# EAGLE library part 44POS-*MM-? (library con-wurth-board-header)
Wurth Elektronik WR-BHD Male Box Headers
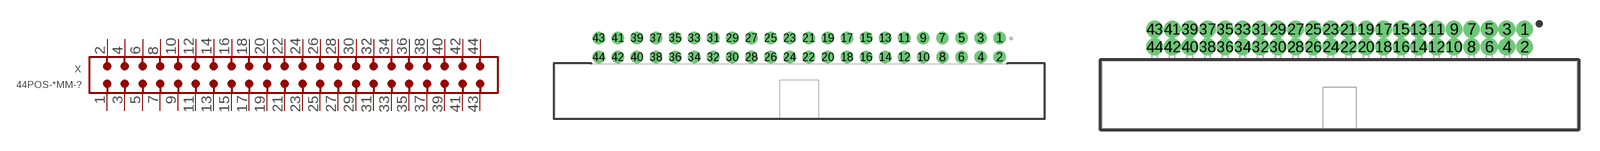
[diagram p10: symbol with the pads of 62504421721; footprints 62504421721, 62704421721]

Designator prefix X

## 44POS-2.00MM-62504421721 (CONTACT-RESISTANCE: 20mOhm; DATASHEET-URL: https://www.we-online.com/redexpert/spec/62504421721?ae; GENDER: Male; IR: 2A; LENGTH: 51.25mm; MOUNT: THT; PACKAGING: Tray; PART-NUMBER: 62504421721; PINS: 44; PITCH: 2.00 mm; TYPE: Angled; VALUE: 62504421721; WORKING-VOLTAGE: 250V(AC))  [62504421721]
1  1  pas
2  2  pas
3  3  pas
4  4  pas
5  5  pas
6  6  pas
7  7  pas
8  8  pas
9  9  pas
10  10  pas
11  11  pas
12  12  pas
13  13  pas
14  14  pas
15  15  pas
16  16  pas
17  17  pas
18  18  pas
19  19  pas
20  20  pas
21  21  pas
22  22  pas
23  23  pas
24  24  pas
25  25  pas
26  26  pas
27  27  pas
28  28  pas
29  29  pas
30  30  pas
31  31  pas
32  32  pas
33  33  pas
34  34  pas
35  35  pas
36  36  pas
37  37  pas
38  38  pas
39  39  pas
40  40  pas
41  41  pas
42  42  pas
43  43  pas
44  44  pas

## 44POS-1.27MM-62704421721 (CONTACT-RESISTANCE: 20mOhm; DATASHEET-URL: https://www.we-online.com/redexpert/spec/62704421721?ae; GENDER: Male; IR: 1A; LENGTH: 34.29mm; MOUNT: THT; PART-NUMBER: 62704421721; PINS: 44; PITCH: 1.27 mm; TYPE: Angled; VALUE: 62704421721; WORKING-VOLTAGE: 50V(AC))  [62704421721]
Pads as for 62504421721

## 44POS-2.00MM-62504422021 (CONTACT-RESISTANCE: 20mOhm; DATASHEET-URL: https://www.we-online.com/redexpert/spec/62504422021?ae; GENDER: Male; IR: 2A; LENGTH: 59.7mm; MOUNT: THT; PACKAGING: Tray; PART-NUMBER: 62504422021; PINS: 44; PITCH: 2.00 mm; TYPE: Straight; VALUE: 62504422021; WORKING-VOLTAGE: 250V(AC))  [62504422021]
Pads as for 62504421721

## 44POS-1.27MM-62704421621 (CONTACT-RESISTANCE: 20mOhm; DATASHEET-URL: https://www.we-online.com/redexpert/spec/62704421621?ae; GENDER: Male; IR: 1A; LENGTH: 34.29mm; MOUNT: THT; PART-NUMBER: 62704421621; PINS: 44; PITCH: 1.27 mm; TYPE: Straight; VALUE: 62704421621; WORKING-VOLTAGE: 50V(AC))  [62704421621]
Pads as for 62504421721

## 44POS-2.00MM-62504421621 (CONTACT-RESISTANCE: 20mOhm; DATASHEET-URL: https://www.we-online.com/redexpert/spec/62504421621?ae; GENDER: Male; IR: 2A; LENGTH: 51.2mm; MOUNT: THT; PACKAGING: Tray; PART-NUMBER: 62504421621; PINS: 44; PITCH: 2.00 mm; TYPE: Straight; VALUE: 62504421621; WORKING-VOLTAGE: 250V(AC))  [62504421621]
Pads as for 62504421721

## 44POS-1.27MM-62704420621 (CONTACT-RESISTANCE: 20mOhm; DATASHEET-URL: https://www.we-online.com/redexpert/spec/62704420621?ae; GENDER: Male; IR: 1A; LENGTH: 34.29mm; MOUNT: SMT; PART-NUMBER: 62704420621; PINS: 44; PITCH: 1.27 mm; TYPE: Straight; VALUE: 62704420621; WORKING-VOLTAGE: 50V(AC))  [62704420621]
Pads as for 62504421721

## 44POS-2.00MM-62504422121 (CONTACT-RESISTANCE: 20mOhm; DATASHEET-URL: https://www.we-online.com/redexpert/spec/62504422121?ae; GENDER: Male; IR: 2A; LENGTH: 59.7mm; MOUNT: THT; PACKAGING: Tray; PART-NUMBER: 62504422121; PINS: 44; PITCH: 2.00 mm; TYPE: Angled; VALUE: 62504422121; WORKING-VOLTAGE: 250V(AC))  [62504422121]
Pads as for 62504421721

## 44POS-2.00MM-62534420621 (CONTACT-RESISTANCE: 20mOhm; DATASHEET-URL: https://www.we-online.com/redexpert/spec/62534420621?ae; GENDER: Male; IR: 2A; LENGTH: 51.25mm; MOUNT: SMT; PACKAGING: Tape and Reel with Cap; PART-NUMBER: 62534420621; PINS: 44; PITCH: 2mm; TYPE: Straight; VALUE: 62534420621; WORKING-VOLTAGE: 250V(AC))  [62534420621]
Pads as for 62504421721

## 44POS-1.27MM-62734420621 (CONTACT-RESISTANCE: 20mOhm; DATASHEET-URL: https://www.we-online.com/redexpert/spec/62734420621?ae; GENDER: Male; IR: 1A; LENGTH: 34.29mm; MOUNT: SMT; PART-NUMBER: 62734420621; PINS: 44; PITCH: 1.27mm; TYPE: Straight; VALUE: 62734420621; WORKING-VOLTAGE: 50V(AC))  [62734420621]
Pads as for 62504421721

## Footprint 62504421721 (pad centres in mm)
WR-BHD 2.00 mm Male Angled Box Header,44 pins
drill 0.8: 1 21,5.55; 2 21,3.55; 3 19,5.55; 4 19,3.55; 5 17,5.55; 6 17,3.55; 7 15,5.55; 8 15,3.55; 9 13,5.55; 10 13,3.55; 11 11,5.55; 12 11,3.55; 13 9,5.55; 14 9,3.55; 15 7,5.55; 16 7,3.55; 17 5,5.55; 18 5,3.55; 19 3,5.55; 20 3,3.55; 21 1,5.55; 22 1,3.55; 23 -1,5.55; 24 -1,3.55; 25 -3,5.55; 26 -3,3.55; 27 -5,5.55; 28 -5,3.55; 29 -7,5.55; 30 -7,3.55; 31 -9,5.55; 32 -9,3.55; 33 -11,5.55; 34 -11,3.55; 35 -13,5.55; 36 -13,3.55; 37 -15,5.55; 38 -15,3.55; 39 -17,5.55; 40 -17,3.55; 41 -19,5.55; 42 -19,3.55; 43 -21,5.55; 44 -21,3.55

## Footprint 62704421721 (pad centres in mm)
WR-BHD 1,27mm Male THT Box Header Right angle, 44Pins
drill 0.7 pad 1.05: 1 13.335,4.72; 2 13.335,3.45; 3 12.065,4.72; 4 12.065,3.45; 5 10.795,4.72; 6 10.795,3.45; 7 9.525,4.72; 8 9.525,3.45; 9 8.255,4.72; 10 8.255,3.45; 11 6.985,4.72; 12 6.985,3.45; 13 5.715,4.72; 14 5.715,3.45; 15 4.445,4.72; 16 4.445,3.45; 17 3.175,4.72; 18 3.175,3.45; 19 1.905,4.72; 20 1.905,3.45; 21 0.635,4.72; 22 0.635,3.45; 23 -0.635,4.72; 24 -0.635,3.45; 25 -1.905,4.72; 26 -1.905,3.45; 27 -3.175,4.72; 28 -3.175,3.45; 29 -4.445,4.72; 30 -4.445,3.45; 31 -5.715,4.72; 32 -5.715,3.45; 33 -6.985,4.72; 34 -6.985,3.45; 35 -8.255,4.72; 36 -8.255,3.45; 37 -9.525,4.72; 38 -9.525,3.45; 39 -10.795,4.72; 40 -10.795,3.45; 41 -12.065,4.72; 42 -12.065,3.45; 43 -13.335,4.72; 44 -13.335,3.45

## Footprint 62504422021 (pad centres in mm)
WR-BHD 2.00 mm Male Box Header with Lever,44 pins
drill 0.8: 1 -21,-1; 2 -21,1; 3 -19,-1; 4 -19,1; 5 -17,-1; 6 -17,1; 7 -15,-1; 8 -15,1; 9 -13,-1; 10 -13,1; 11 -11,-1; 12 -11,1; 13 -9,-1; 14 -9,1; 15 -7,-1; 16 -7,1; 17 -5,-1; 18 -5,1; 19 -3,-1; 20 -3,1; 21 -1,-1; 22 -1,1; 23 1,-1; 24 1,1; 25 3,-1; 26 3,1; 27 5,-1; 28 5,1; 29 7,-1; 30 7,1; 31 9,-1; 32 9,1; 33 11,-1; 34 11,1; 35 13,-1; 36 13,1; 37 15,-1; 38 15,1; 39 17,-1; 40 17,1; 41 19,-1; 42 19,1; 43 21,-1; 44 21,1

## Footprint 62704421621 (pad centres in mm)
WR-BHD 1.27mm Male THT Box Header Straight, 44Pins
drill 0.7 pad 1.05: 1 -13.335,-0.635; 2 -13.335,0.635; 3 -12.065,-0.635; 4 -12.065,0.635; 5 -10.795,-0.635; 6 -10.795,0.635; 7 -9.525,-0.635; 8 -9.525,0.635; 9 -8.255,-0.635; 10 -8.255,0.635; 11 -6.985,-0.635; 12 -6.985,0.635; 13 -5.715,-0.635; 14 -5.715,0.635; 15 -4.445,-0.635; 16 -4.445,0.635; 17 -3.175,-0.635; 18 -3.175,0.635; 19 -1.905,-0.635; 20 -1.905,0.635; 21 -0.635,-0.635; 22 -0.635,0.635; 23 0.635,-0.635; 24 0.635,0.635; 25 1.905,-0.635; 26 1.905,0.635; 27 3.175,-0.635; 28 3.175,0.635; 29 4.445,-0.635; 30 4.445,0.635; 31 5.715,-0.635; 32 5.715,0.635; 33 6.985,-0.635; 34 6.985,0.635; 35 8.255,-0.635; 36 8.255,0.635; 37 9.525,-0.635; 38 9.525,0.635; 39 10.795,-0.635; 40 10.795,0.635; 41 12.065,-0.635; 42 12.065,0.635; 43 13.335,-0.635; 44 13.335,0.635

## Footprint 62504421621 (pad centres in mm)
WR-BHD 2.00 mm Male Box Headerr, 44 pins
drill 0.8: 1 -21,-1; 2 -21,1; 3 -19,-1; 4 -19,1; 5 -17,-1; 6 -17,1; 7 -15,-1; 8 -15,1; 9 -13,-1; 10 -13,1; 11 -11,-1; 12 -11,1; 13 -9,-1; 14 -9,1; 15 -7,-1; 16 -7,1; 17 -5,-1; 18 -5,1; 19 -3,-1; 20 -3,1; 21 -1,-1; 22 -1,1; 23 1,-1; 24 1,1; 25 3,-1; 26 3,1; 27 5,-1; 28 5,1; 29 7,-1; 30 7,1; 31 9,-1; 32 9,1; 33 11,-1; 34 11,1; 35 13,-1; 36 13,1; 37 15,-1; 38 15,1; 39 17,-1; 40 17,1; 41 19,-1; 42 19,1; 43 21,-1; 44 21,1

## Footprint 62704420621 (pad centres in mm)
WR-BHD 1.27 mm Male SMT Box Header Pitch: 1.27mm, 44pins, SMT
smd 0.65 x 2.76: 1 -13.335,-2.02; 2 -13.335,2.02; 3 -12.065,-2.02; 4 -12.065,2.02; 5 -10.795,-2.02; 6 -10.795,2.02; 7 -9.525,-2.02; 8 -9.525,2.02; 9 -8.255,-2.02; 10 -8.255,2.02; 11 -6.985,-2.02; 12 -6.985,2.02; 13 -5.715,-2.02; 14 -5.715,2.02; 15 -4.445,-2.02; 16 -4.445,2.02; 17 -3.175,-2.02; 18 -3.175,2.02; 19 -1.905,-2.02; 20 -1.905,2.02; 21 -0.635,-2.02; 22 -0.635,2.02; 23 0.635,-2.02; 24 0.635,2.02; 25 1.905,-2.02; 26 1.905,2.02; 27 3.175,-2.02; 28 3.175,2.02; 29 4.445,-2.02; 30 4.445,2.02; 31 5.715,-2.02; 32 5.715,2.02; 33 6.985,-2.02; 34 6.985,2.02; 35 8.255,-2.02; 36 8.255,2.02; 37 9.525,-2.02; 38 9.525,2.02; 39 10.795,-2.02; 40 10.795,2.02; 41 12.065,-2.02; 42 12.065,2.02; 43 13.335,-2.02; 44 13.335,2.02

## Footprint 62504422121 (pad centres in mm)
WR-BHD 2.00 mm Male Angled Box Header w. Lever,44 pins
drill 0.8: 1 21,3.4; 2 21,1.4; 3 19,3.4; 4 19,1.4; 5 17,3.4; 6 17,1.4; 7 15,3.4; 8 15,1.4; 9 13,3.4; 10 13,1.4; 11 11,3.4; 12 11,1.4; 13 9,3.4; 14 9,1.4; 15 7,3.4; 16 7,1.4; 17 5,3.4; 18 5,1.4; 19 3,3.4; 20 3,1.4; 21 1,3.4; 22 1,1.4; 23 -1,3.4; 24 -1,1.4; 25 -3,3.4; 26 -3,1.4; 27 -5,3.4; 28 -5,1.4; 29 -7,3.4; 30 -7,1.4; 31 -9,3.4; 32 -9,1.4; 33 -11,3.4; 34 -11,1.4; 35 -13,3.4; 36 -13,1.4; 37 -15,3.4; 38 -15,1.4; 39 -17,3.4; 40 -17,1.4; 41 -19,3.4; 42 -19,1.4; 43 -21,3.4; 44 -21,1.4

## Footprint 62534420621 (pad centres in mm)
WR-BHD 2.00 mm Male SMT Box Header,44 pins
smd 1 x 2.85: 1 -21,-2.425; 2 -21,2.425; 3 -19,-2.425; 4 -19,2.425; 5 -17,-2.425; 6 -17,2.425; 7 -15,-2.425; 8 -15,2.425; 9 -13,-2.425; 10 -13,2.425; 11 -11,-2.425; 12 -11,2.425; 13 -9,-2.425; 14 -9,2.425; 15 -7,-2.425; 16 -7,2.425; 17 -5,-2.425; 18 -5,2.425; 19 -3,-2.425; 20 -3,2.425; 21 -1,-2.425; 22 -1,2.425; 23 1,-2.425; 24 1,2.425; 25 3,-2.425; 26 3,2.425; 27 5,-2.425; 28 5,2.425; 29 7,-2.425; 30 7,2.425; 31 9,-2.425; 32 9,2.425; 33 11,-2.425; 34 11,2.425; 35 13,-2.425; 36 13,2.425; 37 15,-2.425; 38 15,2.425; 39 17,-2.425; 40 17,2.425; 41 19,-2.425; 42 19,2.425; 43 21,-2.425; 44 21,2.425

## Footprint 62734420621 (pad centres in mm)
WR-BHD 1.27 mm Male SMT Box Header Pitch: 1.27mm, 44pins, SMT
smd 0.65 x 2.76: 1 -13.335,-2.02; 2 -13.335,2.02; 3 -12.065,-2.02; 4 -12.065,2.02; 5 -10.795,-2.02; 6 -10.795,2.02; 7 -9.525,-2.02; 8 -9.525,2.02; 9 -8.255,-2.02; 10 -8.255,2.02; 11 -6.985,-2.02; 12 -6.985,2.02; 13 -5.715,-2.02; 14 -5.715,2.02; 15 -4.445,-2.02; 16 -4.445,2.02; 17 -3.175,-2.02; 18 -3.175,2.02; 19 -1.905,-2.02; 20 -1.905,2.02; 21 -0.635,-2.02; 22 -0.635,2.02; 23 0.635,-2.02; 24 0.635,2.02; 25 1.905,-2.02; 26 1.905,2.02; 27 3.175,-2.02; 28 3.175,2.02; 29 4.445,-2.02; 30 4.445,2.02; 31 5.715,-2.02; 32 5.715,2.02; 33 6.985,-2.02; 34 6.985,2.02; 35 8.255,-2.02; 36 8.255,2.02; 37 9.525,-2.02; 38 9.525,2.02; 39 10.795,-2.02; 40 10.795,2.02; 41 12.065,-2.02; 42 12.065,2.02; 43 13.335,-2.02; 44 13.335,2.02